# Altium schematic symbol library LM317.SchLib: 1 symbol
Pins are listed as number, name and electrical type; pins without a type are passive.

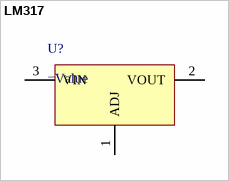
[diagram p0: symbol LM317]

## LM317
designator U?
pins: 1 ADJ (power), 2 VOUT (power), 3 VIN (power)